# Altium schematic symbol library LTC3878EGN#PBF.SchLib: 1 symbol
Pins are listed as number, name and electrical type; pins without a type are passive.

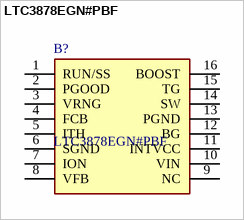
[diagram p0: symbol LTC3878EGN#PBF]

## LTC3878EGN#PBF
designator B?
LINEAR TECHNOLOGY - LTC3878EGN#PBF - BUCK, SYNCH, 34.2V, 16SSOP; Manufacturer_Name: Analog Devices; Geometry.Height: 1.75mm; Mouser Part Number: 584-LTC3878EGN#PBF; Mouser Price/Stock: https://www.mouser.com/Search/Refine.aspx?Keyword=584-LTC3878EGN%23PBF; Manufacturer_Part_Number: LTC3878EGN#PBF; Datasheet Link: https://componentsearchengine.com/Datasheets/1/LTC3878EGN#PBF.pdf
footprint SOP64P601X175-16N
pins: 1 RUN/SS, 2 PGOOD, 3 VRNG, 4 FCB, 5 ITH, 6 SGND, 7 ION, 8 VFB, 9 NC, 10 VIN, 11 INTVCC, 12 BG, 13 PGND, 14 SW, 15 TG, 16 BOOST